# Altium footprint library TraceCoil.PcbLib: 1 footprints
Each footprint in its own frame and in the unit in brackets; x right, y up, seen from the top. Pads: shape width x height; smd on the part's side, far side on the other; paste and mask are expansions set on the pad; w line width, h text height; cw(c..) or ccw(c..) is an arc to the next point about the centre after c.
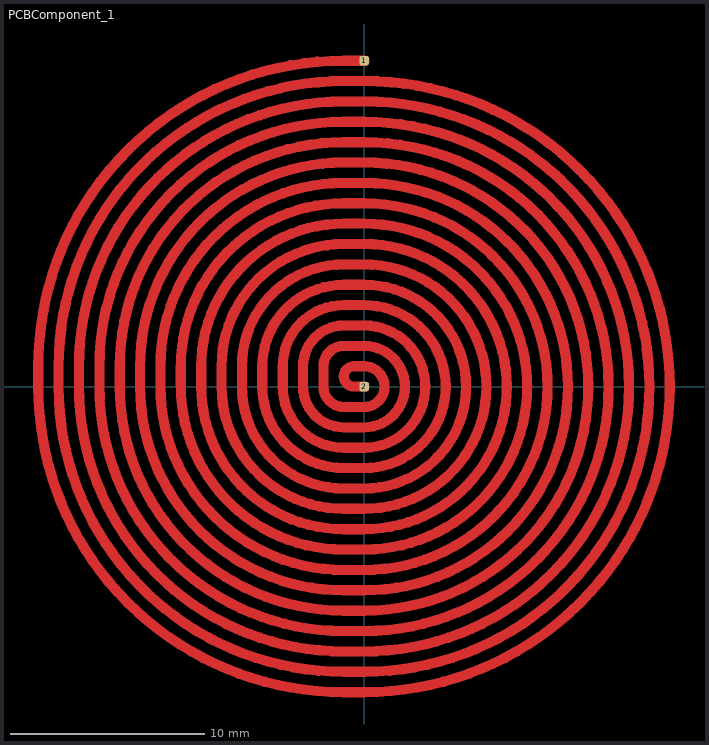
[diagram p0: the footprint, top view; thin cyan lines are the x and y axes]

## PCBComponent_1 [mm]
pads (2):
  rrect50% 0.5x0.5 smd: 1(0,16.752) 2(0,0)
Top Layer:
  lines w0.524: 0,0 -0.523,0 cw(c-0.523,0.001) -0.524,0.001 cw(c-0.524,0.524) -0.525,1.047 ccw(c-0.525,1.047) -0.525,1.047 0,1.047 cw(c0,0) 1.047,0 cw(c0,0) 0,-1.047 -1.047,-1.047 cw(c-1.047,0) -2.094,0 -2.094,1.047 cw(c-1.047,1.047) -1.047,2.094 0,2.094 cw(c0,0) 2.094,0 cw(c0,0) 0,-2.094 -1.047,-2.094 cw(c-1.047,0) -3.141,0 -3.141,1.047 cw(c-1.047,1.047) -1.047,3.141 0,3.141 cw(c0,0) 3.141,0 cw(c0,0) 0,-3.141 -1.047,-3.141 cw(c-1.047,0) -4.188,0 -4.188,1.047 cw(c-1.047,1.047) -1.047,4.188 0,4.188 cw(c0,0) 4.188,0 cw(c0,0) 0,-4.188 -1.047,-4.188 cw(c-1.047,0) -5.235,0 -5.235,1.047 cw(c-1.047,1.047) -1.047,5.235 0,5.235 cw(c0,0) 5.235,0 cw(c0,0) 0,-5.235 -1.047,-5.235 cw(c-1.047,0) -6.282,0 -6.282,1.047 cw(c-1.047,1.047) -1.047,6.282 0,6.282 cw(c0,0) 6.282,0 cw(c0,0) 0,-6.282 -1.047,-6.282 cw(c-1.047,0) -7.329,0 -7.329,1.047 cw(c-1.047,1.047) -1.047,7.329 0,7.329 cw(c0,0) 7.329,0 cw(c0,0) 0,-7.329 -1.047,-7.329 cw(c-1.047,0) -8.376,0 -8.376,1.047 cw(c-1.047,1.047) -1.047,8.376 0,8.376 cw(c0,0) 8.376,0 cw(c0,0) 0,-8.376 -1.047,-8.376 cw(c-1.047,0) -9.423,0 -9.423,1.047 cw(c-1.047,1.047) -1.047,9.423 0,9.423 cw(c0,0) 9.423,0 cw(c0,0) 0,-9.423 -1.047,-9.423 cw(c-1.047,0) -10.47,0 -10.47,1.047 cw(c-1.047,1.047) -1.047,10.47 ; 0,16.752 -1.047,16.752 ccw(c-1.047,1.047) -16.752,1.047 -16.752,0 ccw(c-1.047,0) -1.047,-15.705 0,-15.705 ccw(c0,0) 15.705,0 ccw(c0,0) 0,15.705 -1.047,15.705 ccw(c-1.047,1.047) -15.705,1.047 -15.705,0 ccw(c-1.047,0) -1.047,-14.658 0,-14.658 ; -13.611,0 ccw(c-1.047,0) -1.047,-12.564 0,-12.564 ccw(c0,0) 12.564,0 ccw(c0,0) 0,12.564 -1.047,12.564 ccw(c-1.047,1.047) -12.564,1.047 -12.564,0 ccw(c-1.047,0) -1.047,-11.517 0,-11.517 ccw(c0,0) 11.517,0 ccw(c0,0) 0,11.517 -1.047,11.517 ccw(c-1.047,1.047) -11.517,1.047 -11.517,0 ccw(c-1.047,0) -1.047,-10.47 0,-10.47 ccw(c0,0) 10.47,0 ccw(c0,0) 0,10.47 -1.047,10.47 ; -13.611,0 ccw(c-13.611,0) -13.611,0 ; -13.611,0 -13.611,1.047 cw(c-1.047,1.047) -1.047,13.611 0,13.611 cw(c0,0) 13.611,0 cw(c0,0) 0,-13.611 -1.047,-13.611 cw(c-1.047,0) -14.658,0 -14.658,1.047 cw(c-1.047,1.047) -1.047,14.658 0,14.658 cw(c0,0) 14.658,0 cw(c0,0) 0,-14.658 ; -1.047,10.47 ccw(c-1.047,10.47) -1.047,10.47 ; 0,-14.658 ccw(c0,-14.658) 0,-14.658